# EAGLE library part ICOG_BOARD (library iCogs)
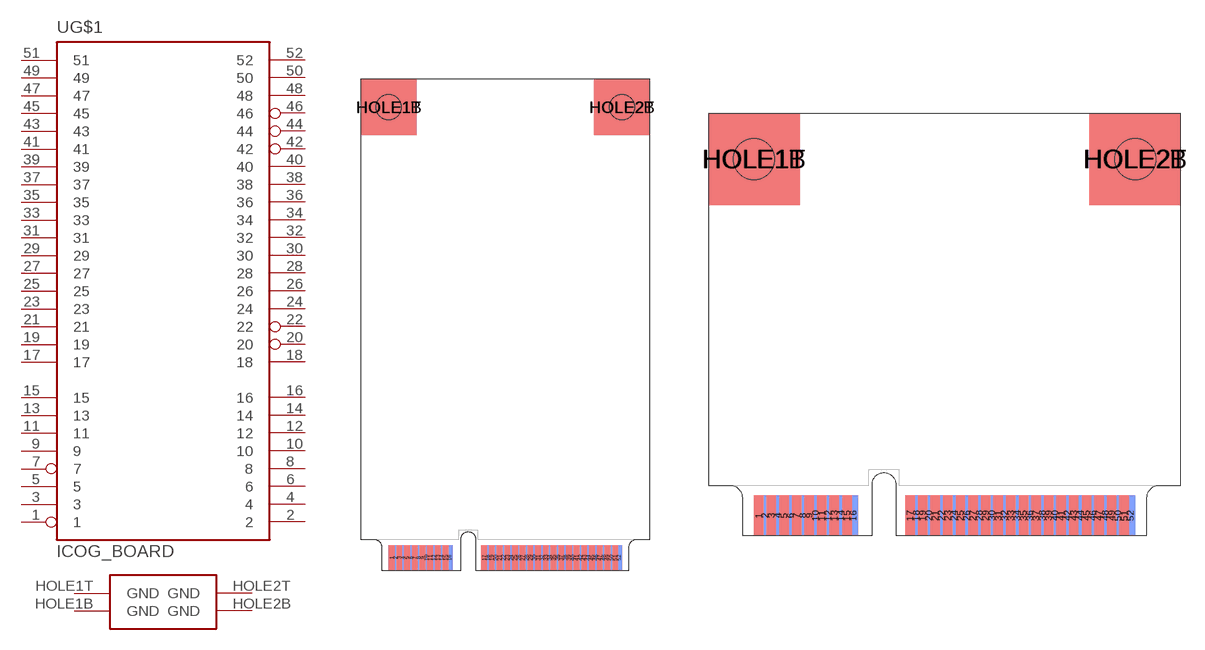
[diagram p1: symbol with the pads of MINI_PCIE; footprints MINI_PCIE, MINI_PCIE_HALF]

Designator prefix -; gates G$1=MINI_PCIE G$2=MINI_PCI_HOLES

## ICOG_BOARDFULL  [MINI_PCIE]
1  G$1:1  out
2  G$1:2  pwr
3  G$1:3
4  G$1:4  pwr
5  G$1:5
6  G$1:6  pwr
7  G$1:7  out
8  G$1:8
9  G$1:9  pwr
10  G$1:10
11  G$1:11  in
12  G$1:12
13  G$1:13  in
14  G$1:14
15  G$1:15  pwr
16  G$1:16
17  G$1:17
18  G$1:18  pwr
19  G$1:19
20  G$1:20  in
21  G$1:21  pwr
22  G$1:22  in
23  G$1:23
24  G$1:24  pwr
25  G$1:25
26  G$1:26  pwr
27  G$1:27  pwr
28  G$1:28  pwr
29  G$1:29  pwr
30  G$1:30  in
31  G$1:31
32  G$1:32  pwr
33  G$1:33
34  G$1:34
35  G$1:35  pwr
36  G$1:36
37  G$1:37
38  G$1:38  pwr
39  G$1:39
40  G$1:40
41  G$1:41
42  G$1:42  out
43  G$1:43
44  G$1:44  out
45  G$1:45
46  G$1:46  out
47  G$1:47
48  G$1:48  out
49  G$1:49
50  G$1:50  out
51  G$1:51
52  G$1:52  pwr
HOLE1B  G$2:GND  pwr
HOLE1T  G$2:GND  pwr
HOLE2B  G$2:GND  pwr
HOLE2T  G$2:GND  pwr

## ICOG_BOARDHALF  [MINI_PCIE_HALF]
Pads as for MINI_PCIE

## ICOG_BOARD"  [ICOG_STANDARD_BOARD]
Pads as for MINI_PCIE

## Footprint MINI_PCIE (pad centres in mm)
smd 0.6 x 2.55: 1 3.2,1.3; 3 4,1.3; 5 4.8,1.3; 7 5.6,1.3; 9 6.4,1.3; 11 7.2,1.3; 13 8,1.3; 15 8.8,1.3; 17 12.8,1.3; 19 13.6,1.3; 21 14.4,1.3; 23 15.2,1.3; 25 16,1.3; 27 16.8,1.3; 29 17.6,1.3; 31 18.4,1.3; 33 19.2,1.3; 35 20,1.3; 37 20.8,1.3; 39 21.6,1.3; 41 22.4,1.3; 43 23.2,1.3; 45 24,1.3; 47 24.8,1.3; 49 25.6,1.3; 51 26.4,1.3
smd 0.6 x 2.55 bottom: 2 3.6,1.3; 4 4.4,1.3; 6 5.2,1.3; 8 6,1.3; 10 6.8,1.3; 12 7.6,1.3; 14 8.4,1.3; 16 9.2,1.3; 18 13.2,1.3; 20 14,1.3; 22 14.8,1.3; 24 15.6,1.3; 26 16.4,1.3; 28 17.2,1.3; 30 18,1.3; 32 18.8,1.3; 34 19.6,1.3; 36 20.4,1.3; 38 21.2,1.3; 40 22,1.3; 42 22.8,1.3; 44 23.6,1.3; 46 24.4,1.3; 48 25.2,1.3; 50 26,1.3; 52 26.8,1.3
smd 5.8 x 5.8 bottom: HOLE1B 2.9,48.075; HOLE2B 27.1,48.075
smd 5.8 x 5.8: HOLE1T 2.9,48.075; HOLE2T 27.1,48.075
hole 2.6 at 2.9,48.075
hole 2.6 at 27.1,48.075

## Footprint MINI_PCIE_HALF (pad centres in mm)
smd 0.6 x 2.55: 1 3.2,1.3; 3 4,1.3; 5 4.8,1.3; 7 5.6,1.3; 9 6.4,1.3; 11 7.2,1.3; 13 8,1.3; 15 8.8,1.3; 17 12.8,1.3; 19 13.6,1.3; 21 14.4,1.3; 23 15.2,1.3; 25 16,1.3; 27 16.8,1.3; 29 17.6,1.3; 31 18.4,1.3; 33 19.2,1.3; 35 20,1.3; 37 20.8,1.3; 39 21.6,1.3; 41 22.4,1.3; 43 23.2,1.3; 45 24,1.3; 47 24.8,1.3; 49 25.6,1.3; 51 26.4,1.3
smd 0.6 x 2.55 bottom: 2 3.6,1.3; 4 4.4,1.3; 6 5.2,1.3; 8 6,1.3; 10 6.8,1.3; 12 7.6,1.3; 14 8.4,1.3; 16 9.2,1.3; 18 13.2,1.3; 20 14,1.3; 22 14.8,1.3; 24 15.6,1.3; 26 16.4,1.3; 28 17.2,1.3; 30 18,1.3; 32 18.8,1.3; 34 19.6,1.3; 36 20.4,1.3; 38 21.2,1.3; 40 22,1.3; 42 22.8,1.3; 44 23.6,1.3; 46 24.4,1.3; 48 25.2,1.3; 50 26,1.3; 52 26.8,1.3
smd 5.8 x 5.8 bottom: HOLE1B 2.9,23.925; HOLE2B 27.1,23.925
smd 5.8 x 5.8: HOLE1T 2.9,23.925; HOLE2T 27.1,23.925
hole 2.6 at 2.9,23.925
hole 2.6 at 27.1,23.925

## Footprint ICOG_STANDARD_BOARD (pad centres in mm)
smd 0.6 x 2.55: 1 3.2,1.3; 3 4,1.3; 5 4.8,1.3; 7 5.6,1.3; 9 6.4,1.3; 11 7.2,1.3; 13 8,1.3; 15 8.8,1.3; 17 12.8,1.3; 19 13.6,1.3; 21 14.4,1.3; 23 15.2,1.3; 25 16,1.3; 27 16.8,1.3; 29 17.6,1.3; 31 18.4,1.3; 33 19.2,1.3; 35 20,1.3; 37 20.8,1.3; 39 21.6,1.3; 41 22.4,1.3; 43 23.2,1.3; 45 24,1.3; 47 24.8,1.3; 49 25.6,1.3; 51 26.4,1.3
smd 0.6 x 2.55 bottom: 2 3.6,1.3; 4 4.4,1.3; 6 5.2,1.3; 8 6,1.3; 10 6.8,1.3; 12 7.6,1.3; 14 8.4,1.3; 16 9.2,1.3; 18 13.2,1.3; 20 14,1.3; 22 14.8,1.3; 24 15.6,1.3; 26 16.4,1.3; 28 17.2,1.3; 30 18,1.3; 32 18.8,1.3; 34 19.6,1.3; 36 20.4,1.3; 38 21.2,1.3; 40 22,1.3; 42 22.8,1.3; 44 23.6,1.3; 46 24.4,1.3; 48 25.2,1.3; 50 26,1.3; 52 26.8,1.3
smd 5.8 x 5.8 bottom: HOLE1B 2.9,29.925; HOLE2B 27.1,29.925
smd 5.8 x 5.8: HOLE1T 2.9,29.925; HOLE2T 27.1,29.925
hole 2.6 at 2.9,29.925
hole 2.6 at 27.1,29.925